# Altium footprint library HARTING Footprints.PcbLib: 317 footprints (part 9 of 20)
Each footprint in its own frame and in the unit in brackets; x right, y up, seen from the top. Pads: shape width x height; smd on the part's side, far side on the other; paste and mask are expansions set on the pad; w line width, h text height; cw(c..) or ccw(c..) is an arc to the next point about the centre after c.
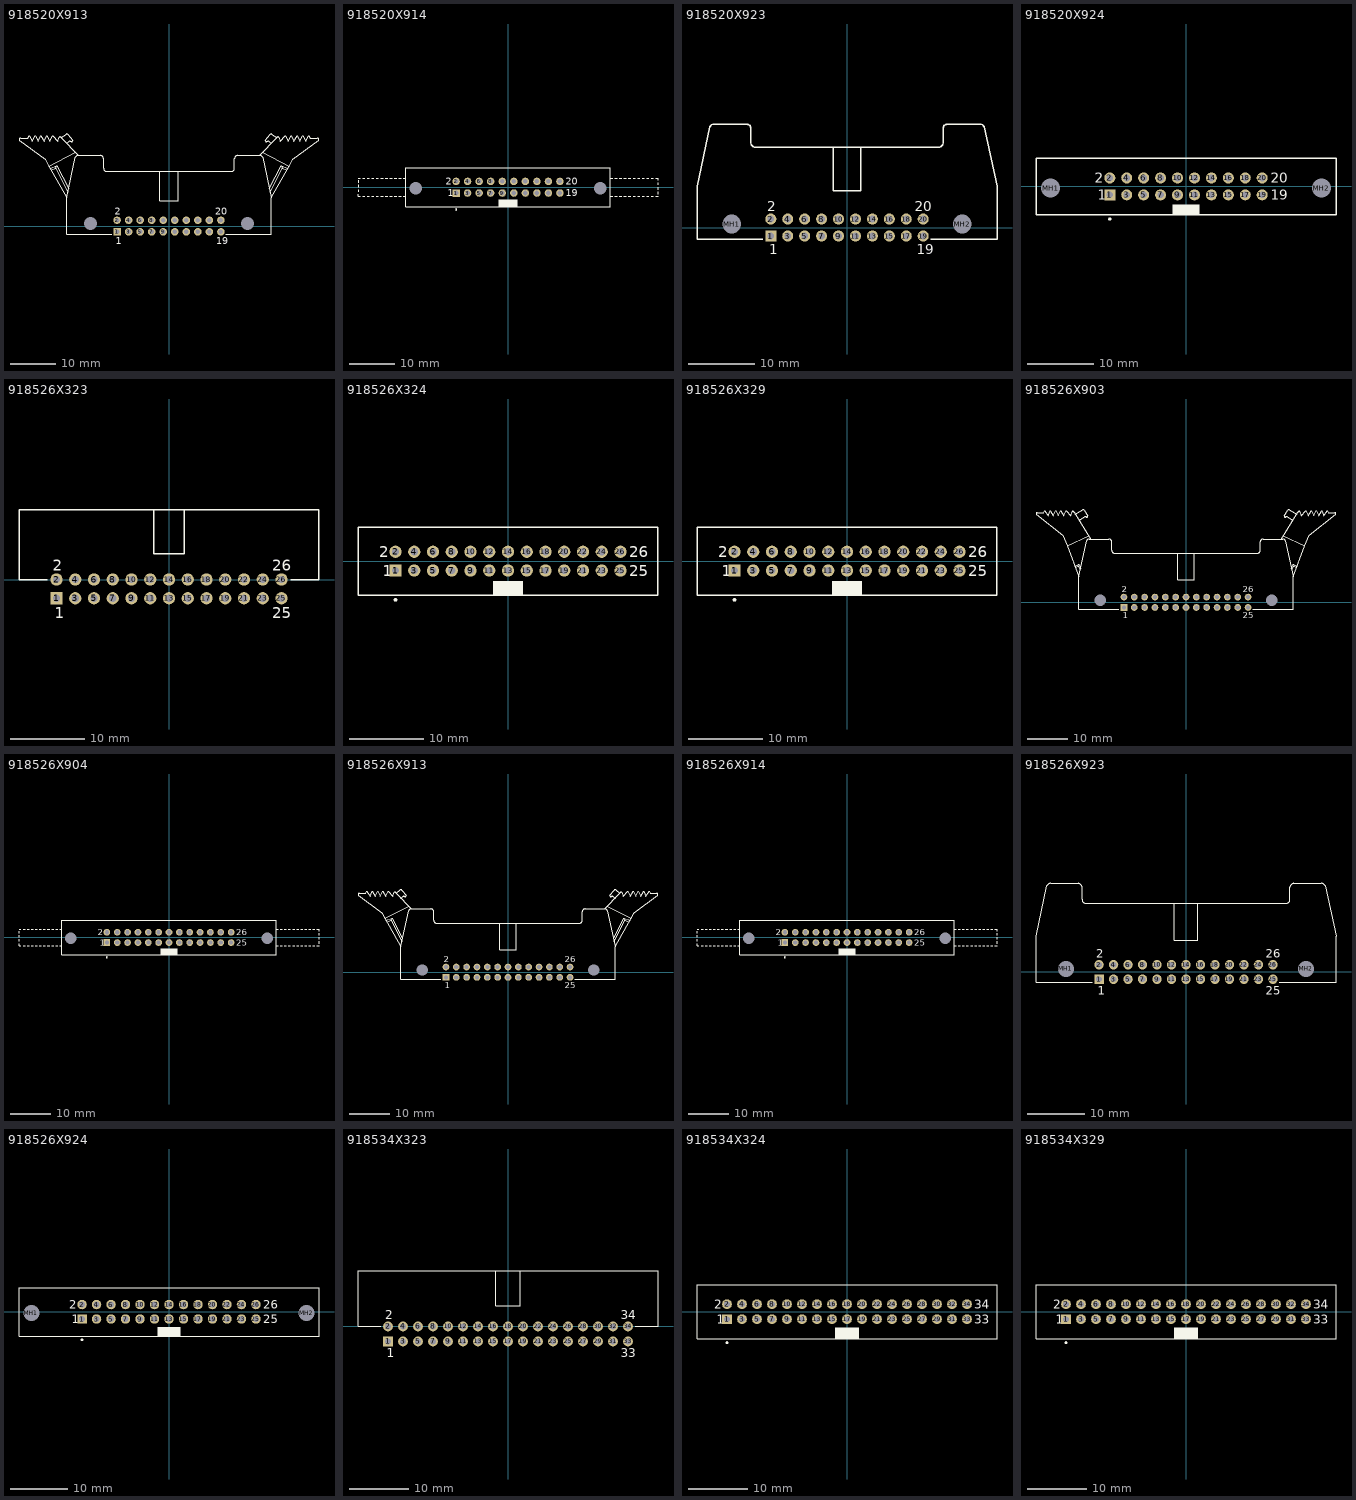
[diagram p8: the footprints below, top view; thin cyan lines are the x and y axes]

## 918520X913 [mm] "Connector; IDC, Thru-Hole; 20 Position; Right Angle; Pitch 2.54 mm; Body 45.00 x 8.5 x 23.30 mm (LxHxW), Locking levers"
height 23.3
pads (22):
  rect 1.65x1.65 hole 1: 1(-11.43,-1.27)
  round 1.65 hole 1: 2(-11.43,1.27) 3(-8.89,-1.27) 4(-8.89,1.27) 5(-6.35,-1.27) 6(-6.35,1.27) 7(-3.81,-1.27) 8(-3.81,1.27) 9(-1.27,-1.27) 10(-1.27,1.27) 11(1.27,-1.27) 12(1.27,1.27) 13(3.81,-1.27) 14(3.81,1.27) 15(6.35,-1.27) 16(6.35,1.27) 17(8.89,-1.27) 18(8.89,1.27) 19(11.43,-1.27) 20(11.43,1.27)
  round 2.5 hole 2.8 unplated: MH1(-17.27,0.53) MH2(17.27,0.53)
Top Overlay:
  lines w0.2: -26.169,12.722 -24.681,13.218 ; -25.941,12.377 -24.923,12.716 ; -22.538,18.198 -21.973,18.617 cw(c-21.837,18.227) -21.57,18.542 ccw(c-21.517,18.857) -21.198,18.877 -22.257,20.156 ccw(c-22.523,19.899) -22.672,20.238 -23.678,19.388 ; -22.253,7.442 -24.923,12.716 ; -22.106,8.195 -24.681,13.218 ; -20.62,16.204 -26.439,13.199 ; -20.007,15.533 -23.678,19.388 ; -20,15.53 -15.115,15.53 cw(c-15.115,14.83) -14.415,14.83 -14.415,12.73 ccw(c-13.715,12.73) -13.715,12.03 13.715,12.03 ccw(c13.715,12.73) 14.415,12.73 14.415,14.83 cw(c15.115,14.83) 15.115,15.53 20,15.53 ; -19.95,15.53 ccw(c-19.965,14.83) -20.61,15.102 -22.5,6.23 ; -12.655,-1.77 -22.5,-1.77 -22.5,6.23 ; -2.05,5.53 -2.05,12.03 ; -2.04,5.53 2.06,5.53 ; 2.05,5.534 2.05,12.03 ; 12.54,-1.77 22.5,-1.77 22.5,6.23 ; 19.95,15.53 cw(c19.965,14.83) 20.61,15.102 22.5,6.23 ; 20.007,15.533 23.678,19.388 ; 20.62,16.204 26.439,13.199 ; 22.106,8.195 24.681,13.218 ; 22.253,7.442 24.923,12.716 ; 22.538,18.198 21.973,18.617 ccw(c21.837,18.227) 21.57,18.542 cw(c21.517,18.857) 21.198,18.877 22.257,20.156 cw(c22.523,19.899) 22.672,20.238 23.678,19.388 ; 25.941,12.377 24.923,12.716 ; 26.169,12.722 24.681,13.218 ; -31.08,19.359 -32.691,19.359 ccw(c-32.691,19.02) -33,18.879 -27.245,14.654 -26.439,13.199 ; -31.08,19.359 -30.824,19.83 ; -31.08,19.359 -30.824,19.83 ; -30.824,19.83 -30.08,18.63 -29.48,19.83 -28.83,18.63 -28.21,19.83 -27.51,18.63 -26.96,19.83 -26.21,18.63 -25.58,19.83 -24.55,18.63 -24.143,19.594 cw(c-24.001,19.285) -23.678,19.388 ; -26.439,13.199 -22.5,6.23 ; -24.923,12.716 -24.681,13.218 ; 22.5,6.23 26.439,13.199 ; 23.678,19.388 cw(c24.001,19.285) 24.143,19.594 24.55,18.63 25.58,19.83 26.21,18.63 26.96,19.83 27.51,18.63 28.21,19.83 28.83,18.63 29.48,19.83 30.08,18.63 30.824,19.83 ; 24.681,13.218 24.923,12.716 ; 26.439,13.199 27.245,14.654 33,18.879 ccw(c32.691,19.02) 32.691,19.359 31.08,19.359 ; 30.824,19.83 31.08,19.359 ; 30.824,19.83 31.08,19.359
  text "19" at 10.43,-3.97 h1.5
  text "20" at 10.18,2.47 h1.5
  text "1" at -11.68,-3.97 h1.5
  text "2" at -11.93,2.47 h1.5

## 918520X914 [mm] "Connector; IDC, Thru-Hole; 20 Position; Vertical; Pitch 2.54 mm; Body 45.00 x 8.5 x 23.30 mm (LxWxH), Locking levers"
height 23.3
pads (22):
  rect 1.65x1.65 hole 1: 1(-11.43,-1.27)
  round 1.65 hole 1: 2(-11.43,1.27) 3(-8.89,-1.27) 4(-8.89,1.27) 5(-6.35,-1.27) 6(-6.35,1.27) 7(-3.81,-1.27) 8(-3.81,1.27) 9(-1.27,-1.27) 10(-1.27,1.27) 11(1.27,-1.27) 12(1.27,1.27) 13(3.81,-1.27) 14(3.81,1.27) 15(6.35,-1.27) 16(6.35,1.27) 17(8.89,-1.27) 18(8.89,1.27) 19(11.43,-1.27) 20(11.43,1.27)
  round 2.5 hole 2.8 unplated: MH1(-20.32,-0.25) MH2(20.32,-0.25)
Top Overlay:
  circle w0.25: c-11.43,-4.9 r0.125
  rectangle: -2.05,-4.25 2.05,-2.7
  lines w0.2: -33.01,-0.5 -33,-1 ; -33.01,0.5 -33,0 ; -33.01,1.5 -33,1 ; -33,-1.5 -33,-2 -32.5,-2 ; -33,2 -32.5,2 ; -32,-2 -31.5,-2 ; -32,2 -31.5,2 ; -31,-2 -30.5,-2 ; -31,2 -30.5,2 ; -30,-2 -29.5,-2 ; -30,2 -29.5,2 ; -29,-2 -28.5,-2 ; -29,2 -28.5,2 ; -28,-2 -27.5,-2 ; -28,2 -27.5,2 ; -27,-2 -26.5,-2 ; -27,2 -26.5,2 ; -26,-2 -25.5,-2 ; -26,2 -25.5,2 ; -25,-2 -24.5,-2 ; -25,2 -24.5,2 ; -24,-2 -23.5,-2 ; -24,2 -23.5,2 ; -23,-2 -22.5,-2 ; -23,2 -22.5,2 ; 22.5,-2 23,-2 ; 22.5,2 23,2 ; 23.5,-2 24,-2 ; 23.5,2 24,2 ; 24.5,-2 25,-2 ; 24.5,2 25,2 ; 25.5,-2 26,-2 ; 25.5,2 26,2 ; 26.5,-2 27,-2 ; 26.5,2 27,2 ; 27.5,-2 28,-2 ; 27.5,2 28,2 ; 28.5,-2 29,-2 ; 28.5,2 29,2 ; 29.5,-2 30,-2 ; 29.5,2 30,2 ; 30.5,-2 31,-2 ; 30.5,2 31,2 ; 31.5,-2 32,-2 ; 31.5,2 32,2 ; 32.5,-2 33,-2 ; 32.5,2 33,2 33,1.5 ; 33,-1.5 33,-1 ; 33,-0.5 33,0 ; 33,0.5 33,1 ; -22.5,-4.25 -22.5,4.25 22.5,4.25 22.5,-4.25 -22.5,-4.25
  text "2" at -13.71,0.52 h1.5
  text "1" at -13.21,-2.02 h1.5
  text "20" at 12.71,0.52 h1.5
  text "19" at 12.71,-2.02 h1.5

## 918520X923 [mm] "Connector; IDC, Thru-Hole; 20 Position; Right Angle; Pitch 2.54 mm; Body 45.00 x 8.5 x 17.30 mm (LxHxW), Without locking levers"
height 17.3
pads (22):
  rect 1.65x1.65 hole 1: 1(-11.43,-1.27)
  round 1.65 hole 1: 2(-11.43,1.27) 3(-8.89,-1.27) 4(-8.89,1.27) 5(-6.35,-1.27) 6(-6.35,1.27) 7(-3.81,-1.27) 8(-3.81,1.27) 9(-1.27,-1.27) 10(-1.27,1.27) 11(1.27,-1.27) 12(1.27,1.27) 13(3.81,-1.27) 14(3.81,1.27) 15(6.35,-1.27) 16(6.35,1.27) 17(8.89,-1.27) 18(8.89,1.27) 19(11.43,-1.27) 20(11.43,1.27)
  round 2.5 hole 2.8 unplated: MH1(-17.27,0.53) MH2(17.27,0.53)
Top Overlay:
  lines w0.2: -12.655,-1.77 -22.5,-1.77 -22.5,6.23 -20.6,15.102 cw(c-19.955,14.83) -19.94,15.53 -15.115,15.53 cw(c-15.115,14.83) -14.415,14.83 -14.415,12.73 ccw(c-13.715,12.73) -13.715,12.03 13.715,12.03 ccw(c13.715,12.73) 14.415,12.73 14.415,14.83 cw(c15.115,14.83) 15.115,15.53 19.94,15.53 cw(c19.955,14.83) 20.6,15.102 22.5,6.23 22.5,-1.77 12.54,-1.77 ; -2.05,5.53 -2.05,12.03 ; -2.04,5.53 2.06,5.53 ; 2.05,5.534 2.05,12.03
  text "2" at -11.93,2.47 h1.5
  text "1" at -11.68,-3.97 h1.5
  text "20" at 10.18,2.47 h1.5
  text "19" at 10.43,-3.97 h1.5

## 918520X924 [mm] "Connector; IDC, Thru-Hole; 20 Position; Vertical; Pitch 2.54 mm; Body 45.00 x 8.5 x 17.30 mm (LxWxH), Without locking levers"
height 17.3
pads (22):
  rect 1.65x1.65 hole 1: 1(-11.43,-1.27)
  round 1.65 hole 1: 2(-11.43,1.27) 3(-8.89,-1.27) 4(-8.89,1.27) 5(-6.35,-1.27) 6(-6.35,1.27) 7(-3.81,-1.27) 8(-3.81,1.27) 9(-1.27,-1.27) 10(-1.27,1.27) 11(1.27,-1.27) 12(1.27,1.27) 13(3.81,-1.27) 14(3.81,1.27) 15(6.35,-1.27) 16(6.35,1.27) 17(8.89,-1.27) 18(8.89,1.27) 19(11.43,-1.27) 20(11.43,1.27)
  round 2.5 hole 2.8 unplated: MH1(-20.32,-0.25) MH2(20.32,-0.25)
Top Overlay:
  circle w0.25: c-11.43,-4.9 r0.125
  rectangle: -2.05,-4.25 2.05,-2.7
  lines w0.2: -22.5,-4.25 -22.5,4.25 22.5,4.25 22.5,-4.25 -22.5,-4.25
  text "2" at -13.71,0.52 h1.5
  text "1" at -13.21,-2.02 h1.5
  text "20" at 12.71,0.52 h1.5
  text "19" at 12.71,-2.02 h1.5

## 918526X323 [mm] "Connector; IDC, Low Profile Male Header, Thru-Hole; 26 Position; Right Angle; Pitch 2.54 mm; Body 40.64 x 8.9 x 9.2 mm (LxWxH)"
height 9.2
pads (26):
  rect 1.65x1.65 hole 1: 1(-15.24,-2.54)
  round 1.65 hole 1: 2(-15.24,0) 3(-12.7,-2.54) 4(-12.7,0) 5(-10.16,-2.54) 6(-10.16,0) 7(-7.62,-2.54) 8(-7.62,0) 9(-5.08,-2.54) 10(-5.08,0) 11(-2.54,-2.54) 12(-2.54,0) 13(0,-2.54) 14(0,0) 15(2.54,-2.54) 16(2.54,0) 17(5.08,-2.54) 18(5.08,0) 19(7.62,-2.54) 20(7.62,0) 21(10.16,-2.54) 22(10.16,0) 23(12.7,-2.54) 24(12.7,0) 25(15.24,-2.54) 26(15.24,0)
Top Overlay:
  lines w0.2: -16.465,0 -20.32,0 -20.32,9.45 20.32,9.45 20.32,0 16.465,0 ; -2.05,9.45 -2.05,3.48 2.05,3.48 2.05,9.45
  text "2" at -15.74,1.2 h1.5
  text "1" at -15.49,-5.24 h1.5
  text "26" at 13.99,1.2 h1.5
  text "25" at 13.99,-5.24 h1.5

## 918526X324 [mm] "Connector; IDC, Low Profile Male Header, Thru-Hole; 26 Position; Vertical; Pitch 2.54 mm; Body 40.64 x 9.2 x 9.45 mm (LxWxH)"
height 9.45
pads (26):
  rect 1.65x1.65 hole 1: 1(-15.24,-1.27)
  round 1.65 hole 1: 2(-15.24,1.27) 3(-12.7,-1.27) 4(-12.7,1.27) 5(-10.16,-1.27) 6(-10.16,1.27) 7(-7.62,-1.27) 8(-7.62,1.27) 9(-5.08,-1.27) 10(-5.08,1.27) 11(-2.54,-1.27) 12(-2.54,1.27) 13(0,-1.27) 14(0,1.27) 15(2.54,-1.27) 16(2.54,1.27) 17(5.08,-1.27) 18(5.08,1.27) 19(7.62,-1.27) 20(7.62,1.27) 21(10.16,-1.27) 22(10.16,1.27) 23(12.7,-1.27) 24(12.7,1.27) 25(15.24,-1.27) 26(15.24,1.27)
Top Overlay:
  circle w0.25: c-15.24,-5.25 r0.125
  rectangle: -2.05,-4.6 2.05,-2.7
  lines w0.2: -20.32,-4.6 20.32,-4.6 20.32,4.6 -20.32,4.6 -20.32,-4.6
  text "25" at 16.44,-2.02 h1.5
  text "26" at 16.44,0.52 h1.5
  text "1" at -16.94,-2.02 h1.5
  text "2" at -17.44,0.52 h1.5

## 918526X329 [mm] "Connector; IDC, Straight Press-in Pin, Thru-Hole; 26 Position; Vertical; Pitch 2.54 mm; Body 40.64 x 9.2 x 9.45 mm (LxWxH)"
height 9.45
pads (26):
  rect 1.65x1.65 hole 1: 1(-15.24,-1.27)
  round 1.65 hole 1: 2(-15.24,1.27) 3(-12.7,-1.27) 4(-12.7,1.27) 5(-10.16,-1.27) 6(-10.16,1.27) 7(-7.62,-1.27) 8(-7.62,1.27) 9(-5.08,-1.27) 10(-5.08,1.27) 11(-2.54,-1.27) 12(-2.54,1.27) 13(0,-1.27) 14(0,1.27) 15(2.54,-1.27) 16(2.54,1.27) 17(5.08,-1.27) 18(5.08,1.27) 19(7.62,-1.27) 20(7.62,1.27) 21(10.16,-1.27) 22(10.16,1.27) 23(12.7,-1.27) 24(12.7,1.27) 25(15.24,-1.27) 26(15.24,1.27)
Top Overlay:
  circle w0.25: c-15.24,-5.25 r0.125
  rectangle: -2.05,-4.6 2.05,-2.7
  lines w0.2: -20.32,-4.6 20.32,-4.6 20.32,4.6 -20.32,4.6 -20.32,-4.6
  text "25" at 16.44,-2.02 h1.5
  text "26" at 16.44,0.52 h1.5
  text "1" at -16.94,-2.02 h1.5
  text "2" at -17.44,0.52 h1.5

## 918526X903 [mm] "Connector; IDC, Thru-Hole; 26 Position; Right Angle; Pitch 2.54 mm; Body 52.60 x 8.5 x 25.75 mm (LxHxW), Locking levers"
height 25.75
pads (28):
  rect 1.65x1.65 hole 1: 1(-15.24,-1.27)
  round 1.65 hole 1: 2(-15.24,1.27) 3(-12.7,-1.27) 4(-12.7,1.27) 5(-10.16,-1.27) 6(-10.16,1.27) 7(-7.62,-1.27) 8(-7.62,1.27) 9(-5.08,-1.27) 10(-5.08,1.27) 11(-2.54,-1.27) 12(-2.54,1.27) 13(0,-1.27) 14(0,1.27) 15(2.54,-1.27) 16(2.54,1.27) 17(5.08,-1.27) 18(5.08,1.27) 19(7.62,-1.27) 20(7.62,1.27) 21(10.16,-1.27) 22(10.16,1.27) 23(12.7,-1.27) 24(12.7,1.27) 25(15.24,-1.27) 26(15.24,1.27)
  round 2.5 hole 2.8 unplated: MH1(-21.08,0.53) MH2(21.08,0.53)
Top Overlay:
  lines w0.2: -27.27,8.851 -26.305,9.3 ; -27.141,8.563 -26.47,8.877 ; -27.135,21.6 -25.412,22.725 cw(c-25.263,22.387) -24.997,22.644 -24.072,21.245 cw(c-24.392,21.225) -24.444,20.91 ccw(c-24.712,20.595) -24.847,20.985 ; -26.213,20.103 -24.85,20.991 ; -25.943,7.925 -26.47,8.877 ; -25.843,8.378 -26.305,9.3 ; -23.915,16.383 -29.139,13.84 ; -23.344,15.53 -27.478,22.058 ccw(c-27.801,21.956) -27.943,22.265 -28.35,21.301 -29.38,22.501 -30.01,21.301 -30.76,22.501 -31.31,21.301 -32.01,22.501 -32.63,21.301 -33.28,22.501 -33.88,21.301 -34.625,22.501 ; -18.925,15.53 cw(c-18.925,14.83) -18.225,14.83 -18.225,12.73 ccw(c-17.525,12.73) -17.525,12.03 17.525,12.03 ccw(c17.525,12.73) 18.225,12.73 18.225,14.83 cw(c18.925,14.83) 18.925,15.53 23.75,15.53 cw(c23.765,14.83) 24.41,15.102 26.3,6.23 ; -18.925,15.53 -23.75,15.53 ccw(c-23.765,14.83) -24.41,15.102 -26.3,6.23 ; -16.465,-1.77 -26.3,-1.77 -26.3,6.23 ; -2.05,5.53 -2.05,12.03 ; -2.04,5.53 2.06,5.53 ; 2.05,5.534 2.05,12.03 ; 16.35,-1.77 26.3,-1.77 26.3,6.23 ; 23.344,15.53 27.478,22.058 cw(c27.801,21.956) 27.943,22.265 28.35,21.301 29.38,22.501 30.01,21.301 30.76,22.501 31.31,21.301 32.01,22.501 32.63,21.301 33.28,22.501 33.88,21.301 34.624,22.501 ; 23.915,16.383 29.139,13.84 ; 24.847,20.985 ccw(c24.712,20.595) 24.444,20.91 cw(c24.392,21.225) 24.072,21.245 24.997,22.644 cw(c25.263,22.387) 25.412,22.725 27.135,21.6 ; 24.85,20.991 26.213,20.103 ; 25.843,8.378 26.305,9.3 ; 25.943,7.925 26.47,8.877 ; 27.141,8.563 26.47,8.877 ; 27.27,8.851 26.305,9.3 ; -34.88,22.03 -36.491,22.03 ccw(c-36.491,21.69) -36.8,21.549 -30.265,16.455 -29.139,13.84 ; -34.88,22.03 -34.625,22.501 ; -34.88,22.03 -34.625,22.501 ; -29.139,13.84 -26.3,6.23 ; -26.47,8.877 -26.305,9.3 ; 26.3,6.23 29.139,13.84 ; 26.305,9.3 26.47,8.877 ; 29.139,13.84 30.265,16.455 36.8,21.549 ccw(c36.491,21.69) 36.491,22.03 34.88,22.03 ; 34.624,22.501 34.88,22.03 ; 34.624,22.501 34.88,22.03
  text "2" at -15.74,2.47 h1.5
  text "1" at -15.49,-3.97 h1.5
  text "26" at 13.99,2.47 h1.5
  text "25" at 13.99,-3.97 h1.5

## 918526X904 [mm] "Connector; IDC, Thru-Hole; 26 Position; Vertical; Pitch 2.54 mm; Body 52.60 x 8.5 x 25.75 mm (LxWxH), Locking levers"
height 25.75
pads (28):
  rect 1.65x1.65 hole 1: 1(-15.24,-1.27)
  round 1.65 hole 1: 2(-15.24,1.27) 3(-12.7,-1.27) 4(-12.7,1.27) 5(-10.16,-1.27) 6(-10.16,1.27) 7(-7.62,-1.27) 8(-7.62,1.27) 9(-5.08,-1.27) 10(-5.08,1.27) 11(-2.54,-1.27) 12(-2.54,1.27) 13(0,-1.27) 14(0,1.27) 15(2.54,-1.27) 16(2.54,1.27) 17(5.08,-1.27) 18(5.08,1.27) 19(7.62,-1.27) 20(7.62,1.27) 21(10.16,-1.27) 22(10.16,1.27) 23(12.7,-1.27) 24(12.7,1.27) 25(15.24,-1.27) 26(15.24,1.27)
  round 2.5 hole 2.8 unplated: MH1(-24.13,-0.25) MH2(24.13,-0.25)
Top Overlay:
  circle w0.25: c-15.24,-4.9 r0.125
  rectangle: -2.05,-4.25 2.05,-2.7
  lines w0.2: -36.8,-1.5 -36.8,-2 -36.31,-2 ; -36.8,-1 -36.8,-0.5 ; -36.8,0 -36.8,0.5 ; -36.8,1 -36.8,1.5 ; -36.8,2 -36.31,2 ; -35.81,-2 -35.31,-2 ; -35.81,2 -35.31,2 ; -34.81,-2 -34.31,-2 ; -34.81,2 -34.31,2 ; -33.81,-2 -33.31,-2 ; -33.81,2 -33.31,2 ; -32.81,-2 -32.31,-2 ; -32.81,2 -32.31,2 ; -31.81,-2 -31.31,-2 ; -31.81,2 -31.31,2 ; -30.81,-2 -30.31,-2 ; -30.81,2 -30.31,2 ; -29.81,-2 -29.31,-2 ; -29.81,2 -29.31,2 ; -28.81,-2 -28.31,-2 ; -28.81,2 -28.31,2 ; -27.81,-2 -27.31,-2 ; -27.81,2 -27.31,2 ; -26.81,-2 -26.3,-2 ; -26.81,2 -26.3,2 ; 26.3,-2 26.8,-2 ; 26.3,2 26.8,2 ; 27.3,-2 27.8,-2 ; 27.3,2 27.8,2 ; 28.3,-2 28.8,-2 ; 28.3,2 28.8,2 ; 29.3,-2 29.8,-2 ; 29.3,2 29.8,2 ; 30.3,-2 30.8,-2 ; 30.3,2 30.8,2 ; 31.3,-2 31.8,-2 ; 31.3,2 31.8,2 ; 32.3,-2 32.8,-2 ; 32.3,2 32.8,2 ; 33.3,-2 33.8,-2 ; 33.3,2 33.8,2 ; 34.3,-2 34.8,-2 ; 34.3,2 34.8,2 ; 35.3,-2 35.8,-2 ; 35.3,2 35.8,2 ; 36.3,-2 36.8,-2 ; 36.3,2 36.8,2 36.8,1.5 ; 36.8,-1.5 36.8,-1 ; 36.8,-0.5 36.8,0 ; 36.8,0.5 36.8,1 ; -26.3,-4.25 26.3,-4.25 26.3,4.25 -26.3,4.25 -26.3,-4.25
  text "25" at 16.52,-2.02 h1.5
  text "26" at 16.52,0.52 h1.5
  text "1" at -17.02,-2.02 h1.5
  text "2" at -17.52,0.52 h1.5

## 918526X913 [mm] "Connector; IDC, Thru-Hole; 26 Position; Right Angle; Pitch 2.54 mm; Body 52.60 x 8.5 x 23.30 mm (LxHxW), Locking levers"
height 23.3
pads (28):
  rect 1.65x1.65 hole 1: 1(-15.24,-1.27)
  round 1.65 hole 1: 2(-15.24,1.27) 3(-12.7,-1.27) 4(-12.7,1.27) 5(-10.16,-1.27) 6(-10.16,1.27) 7(-7.62,-1.27) 8(-7.62,1.27) 9(-5.08,-1.27) 10(-5.08,1.27) 11(-2.54,-1.27) 12(-2.54,1.27) 13(0,-1.27) 14(0,1.27) 15(2.54,-1.27) 16(2.54,1.27) 17(5.08,-1.27) 18(5.08,1.27) 19(7.62,-1.27) 20(7.62,1.27) 21(10.16,-1.27) 22(10.16,1.27) 23(12.7,-1.27) 24(12.7,1.27) 25(15.24,-1.27) 26(15.24,1.27)
  round 2.5 hole 2.8 unplated: MH1(-21.08,0.53) MH2(21.08,0.53)
Top Overlay:
  lines w0.2: -29.969,12.722 -28.481,13.218 ; -29.741,12.377 -28.723,12.716 ; -26.338,18.198 -25.773,18.617 cw(c-25.637,18.227) -25.37,18.542 ccw(c-25.317,18.857) -24.998,18.877 -26.057,20.156 ccw(c-26.323,19.899) -26.472,20.238 -27.478,19.388 ; -26.053,7.442 -28.723,12.716 ; -25.906,8.195 -28.481,13.218 ; -24.42,16.204 -30.239,13.199 ; -23.807,15.533 -27.478,19.388 ; -18.925,15.53 cw(c-18.925,14.83) -18.225,14.83 -18.225,12.73 ccw(c-17.525,12.73) -17.525,12.03 17.525,12.03 ccw(c17.525,12.73) 18.225,12.73 18.225,14.83 cw(c18.925,14.83) 18.925,15.53 23.75,15.53 cw(c23.765,14.83) 24.41,15.102 26.3,6.23 ; -18.925,15.53 -23.75,15.53 ccw(c-23.765,14.83) -24.41,15.102 -26.3,6.23 ; -16.465,-1.77 -26.3,-1.77 -26.3,6.23 ; -2.05,5.53 -2.05,12.03 ; -2.04,5.53 2.06,5.53 ; 2.05,5.534 2.05,12.03 ; 16.35,-1.77 26.3,-1.77 26.3,6.23 ; 23.807,15.533 27.478,19.388 ; 24.42,16.204 30.239,13.199 ; 25.906,8.195 28.481,13.218 ; 26.053,7.442 28.723,12.716 ; 26.338,18.198 25.773,18.617 ccw(c25.637,18.227) 25.37,18.542 cw(c25.317,18.857) 24.998,18.877 26.057,20.156 cw(c26.323,19.899) 26.472,20.238 27.478,19.388 ; 29.741,12.377 28.723,12.716 ; 29.969,12.722 28.481,13.218 ; -34.88,19.359 -36.491,19.359 ccw(c-36.491,19.02) -36.8,18.879 -31.045,14.654 -30.239,13.199 ; -34.88,19.359 -34.624,19.83 ; -34.88,19.359 -34.624,19.83 ; -34.624,19.83 -33.88,18.63 -33.28,19.83 -32.63,18.63 -32.01,19.83 -31.31,18.63 -30.76,19.83 -30.01,18.63 -29.38,19.83 -28.35,18.63 -27.943,19.594 cw(c-27.801,19.285) -27.478,19.388 ; -30.239,13.199 -26.3,6.23 ; -28.723,12.716 -28.481,13.218 ; 26.3,6.23 30.239,13.199 ; 27.478,19.388 cw(c27.801,19.285) 27.943,19.594 28.35,18.63 29.38,19.83 30.01,18.63 30.76,19.83 31.31,18.63 32.01,19.83 32.63,18.63 33.28,19.83 33.88,18.63 34.624,19.83 ; 28.481,13.218 28.723,12.716 ; 30.239,13.199 31.045,14.654 36.8,18.879 ccw(c36.491,19.02) 36.491,19.359 34.88,19.359 ; 34.624,19.83 34.88,19.359 ; 34.624,19.83 34.88,19.359
  text "25" at 13.99,-3.97 h1.5
  text "26" at 13.99,2.47 h1.5
  text "1" at -15.49,-3.97 h1.5
  text "2" at -15.74,2.47 h1.5

## 918526X914 [mm] "Connector; IDC, Thru-Hole; 26 Position; Vertical; Pitch 2.54 mm; Body 52.60 x 8.5 x 23.30 mm (LxWxH), Locking levers"
height 23.3
pads (28):
  rect 1.65x1.65 hole 1: 1(-15.24,-1.27)
  round 1.65 hole 1: 2(-15.24,1.27) 3(-12.7,-1.27) 4(-12.7,1.27) 5(-10.16,-1.27) 6(-10.16,1.27) 7(-7.62,-1.27) 8(-7.62,1.27) 9(-5.08,-1.27) 10(-5.08,1.27) 11(-2.54,-1.27) 12(-2.54,1.27) 13(0,-1.27) 14(0,1.27) 15(2.54,-1.27) 16(2.54,1.27) 17(5.08,-1.27) 18(5.08,1.27) 19(7.62,-1.27) 20(7.62,1.27) 21(10.16,-1.27) 22(10.16,1.27) 23(12.7,-1.27) 24(12.7,1.27) 25(15.24,-1.27) 26(15.24,1.27)
  round 2.5 hole 2.8 unplated: MH1(-24.13,-0.25) MH2(24.13,-0.25)
Top Overlay:
  circle w0.25: c-15.24,-4.9 r0.125
  rectangle: -2.05,-4.25 2.05,-2.7
  lines w0.2: -36.8,-1.5 -36.8,-2 -36.31,-2 ; -36.8,-1 -36.8,-0.5 ; -36.8,0 -36.8,0.5 ; -36.8,1 -36.8,1.5 ; -36.8,2 -36.31,2 ; -35.81,-2 -35.31,-2 ; -35.81,2 -35.31,2 ; -34.81,-2 -34.31,-2 ; -34.81,2 -34.31,2 ; -33.81,-2 -33.31,-2 ; -33.81,2 -33.31,2 ; -32.81,-2 -32.31,-2 ; -32.81,2 -32.31,2 ; -31.81,-2 -31.31,-2 ; -31.81,2 -31.31,2 ; -30.81,-2 -30.31,-2 ; -30.81,2 -30.31,2 ; -29.81,-2 -29.31,-2 ; -29.81,2 -29.31,2 ; -28.81,-2 -28.31,-2 ; -28.81,2 -28.31,2 ; -27.81,-2 -27.31,-2 ; -27.81,2 -27.31,2 ; -26.81,-2 -26.3,-2 ; -26.81,2 -26.3,2 ; 26.3,-2 26.8,-2 ; 26.3,2 26.8,2 ; 27.3,-2 27.8,-2 ; 27.3,2 27.8,2 ; 28.3,-2 28.8,-2 ; 28.3,2 28.8,2 ; 29.3,-2 29.8,-2 ; 29.3,2 29.8,2 ; 30.3,-2 30.8,-2 ; 30.3,2 30.8,2 ; 31.3,-2 31.8,-2 ; 31.3,2 31.8,2 ; 32.3,-2 32.8,-2 ; 32.3,2 32.8,2 ; 33.3,-2 33.8,-2 ; 33.3,2 33.8,2 ; 34.3,-2 34.8,-2 ; 34.3,2 34.8,2 ; 35.3,-2 35.8,-2 ; 35.3,2 35.8,2 ; 36.3,-2 36.8,-2 ; 36.3,2 36.8,2 36.8,1.5 ; 36.8,-1.5 36.8,-1 ; 36.8,-0.5 36.8,0 ; 36.8,0.5 36.8,1 ; -26.3,-4.25 26.3,-4.25 26.3,4.25 -26.3,4.25 -26.3,-4.25
  text "25" at 16.52,-2.02 h1.5
  text "26" at 16.52,0.52 h1.5
  text "1" at -17.02,-2.02 h1.5
  text "2" at -17.52,0.52 h1.5

## 918526X923 [mm] "Connector; IDC, Thru-Hole; 26 Position; Right Angle; Pitch 2.54 mm; Body 52.60 x 8.5 x 17.30 mm (LxHxW), Without locking levers"
height 17.3
pads (28):
  rect 1.65x1.65 hole 1: 1(-15.24,-1.27)
  round 1.65 hole 1: 2(-15.24,1.27) 3(-12.7,-1.27) 4(-12.7,1.27) 5(-10.16,-1.27) 6(-10.16,1.27) 7(-7.62,-1.27) 8(-7.62,1.27) 9(-5.08,-1.27) 10(-5.08,1.27) 11(-2.54,-1.27) 12(-2.54,1.27) 13(0,-1.27) 14(0,1.27) 15(2.54,-1.27) 16(2.54,1.27) 17(5.08,-1.27) 18(5.08,1.27) 19(7.62,-1.27) 20(7.62,1.27) 21(10.16,-1.27) 22(10.16,1.27) 23(12.7,-1.27) 24(12.7,1.27) 25(15.24,-1.27) 26(15.24,1.27)
  round 2.5 hole 2.8 unplated: MH1(-21.08,0.53) MH2(21.08,0.53)
Top Overlay:
  lines w0.2: -18.925,15.53 cw(c-18.925,14.83) -18.225,14.83 -18.225,12.73 ccw(c-17.525,12.73) -17.525,12.03 17.525,12.03 ccw(c17.525,12.73) 18.225,12.73 18.225,14.83 cw(c18.925,14.83) 18.925,15.53 23.75,15.53 cw(c23.765,14.83) 24.41,15.102 26.3,6.23 26.3,-1.77 16.35,-1.77 ; -18.925,15.53 -23.75,15.53 ccw(c-23.765,14.83) -24.41,15.102 -26.3,6.23 -26.3,-1.77 -16.465,-1.77 ; -2.05,5.53 -2.05,12.03 ; -2.04,5.53 2.06,5.53 ; 2.05,5.534 2.05,12.03
  text "25" at 13.99,-3.97 h1.5
  text "26" at 13.99,2.47 h1.5
  text "1" at -15.49,-3.97 h1.5
  text "2" at -15.74,2.47 h1.5

## 918526X924 [mm] "Connector; IDC, Thru-Hole; 26 Position; Vertical; Pitch 2.54 mm; Body 52.60 x 8.5 x 17.30 mm (LxWxH), Without locking levers"
height 17.3
pads (28):
  rect 1.65x1.65 hole 1: 1(-15.24,-1.27)
  round 1.65 hole 1: 2(-15.24,1.27) 3(-12.7,-1.27) 4(-12.7,1.27) 5(-10.16,-1.27) 6(-10.16,1.27) 7(-7.62,-1.27) 8(-7.62,1.27) 9(-5.08,-1.27) 10(-5.08,1.27) 11(-2.54,-1.27) 12(-2.54,1.27) 13(0,-1.27) 14(0,1.27) 15(2.54,-1.27) 16(2.54,1.27) 17(5.08,-1.27) 18(5.08,1.27) 19(7.62,-1.27) 20(7.62,1.27) 21(10.16,-1.27) 22(10.16,1.27) 23(12.7,-1.27) 24(12.7,1.27) 25(15.24,-1.27) 26(15.24,1.27)
  round 2.5 hole 2.8 unplated: MH1(-24.13,-0.25) MH2(24.13,-0.25)
Top Overlay:
  circle w0.25: c-15.24,-4.9 r0.125
  rectangle: -2.05,-4.25 2.05,-2.7
  lines w0.2: -26.3,-4.25 -26.3,4.25 26.3,4.25 26.3,-4.25 -26.3,-4.25
  text "2" at -17.52,0.52 h1.5
  text "1" at -17.02,-2.02 h1.5
  text "26" at 16.52,0.52 h1.5
  text "25" at 16.52,-2.02 h1.5

## 918534X323 [mm] "Connector; IDC, Low Profile Male Header, Thru-Hole; 34 Position; Right Angle; Pitch 2.54 mm; Body 50.80 x 8.9 x 9.2 mm (LxWxH)"
height 9.2
pads (34):
  rect 1.65x1.65 hole 1: 1(-20.32,-2.54)
  round 1.65 hole 1: 2(-20.32,0) 3(-17.78,-2.54) 4(-17.78,0) 5(-15.24,-2.54) 6(-15.24,0) 7(-12.7,-2.54) 8(-12.7,0) 9(-10.16,-2.54) 10(-10.16,0) 11(-7.62,-2.54) 12(-7.62,0) 13(-5.08,-2.54) 14(-5.08,0) 15(-2.54,-2.54) 16(-2.54,0) 17(0,-2.54) 18(0,0) 19(2.54,-2.54) 20(2.54,0) 21(5.08,-2.54) 22(5.08,0) 23(7.62,-2.54) 24(7.62,0) 25(10.16,-2.54) 26(10.16,0) 27(12.7,-2.54) 28(12.7,0) 29(15.24,-2.54) 30(15.24,0) 31(17.78,-2.54) 32(17.78,0) 33(20.32,-2.54) 34(20.32,0)
Top Overlay:
  lines w0.2: -21.545,0 -25.4,0 -25.4,9.45 25.4,9.45 25.4,0 21.545,0 ; -2.05,9.45 -2.05,3.48 2.05,3.48 2.05,9.45
  text "2" at -20.82,1.2 h1.5
  text "1" at -20.57,-5.24 h1.5
  text "34" at 19.07,1.2 h1.5
  text "33" at 19.07,-5.24 h1.5

## 918534X324 [mm] "Connector; IDC, Low Profile Male Header, Thru-Hole; 34 Position; Vertical; Pitch 2.54 mm; Body 50.80 x 9.2 x 9.45 mm (LxWxH)"
height 9.45
pads (34):
  rect 1.65x1.65 hole 1: 1(-20.32,-1.27)
  round 1.65 hole 1: 2(-20.32,1.27) 3(-17.78,-1.27) 4(-17.78,1.27) 5(-15.24,-1.27) 6(-15.24,1.27) 7(-12.7,-1.27) 8(-12.7,1.27) 9(-10.16,-1.27) 10(-10.16,1.27) 11(-7.62,-1.27) 12(-7.62,1.27) 13(-5.08,-1.27) 14(-5.08,1.27) 15(-2.54,-1.27) 16(-2.54,1.27) 17(0,-1.27) 18(0,1.27) 19(2.54,-1.27) 20(2.54,1.27) 21(5.08,-1.27) 22(5.08,1.27) 23(7.62,-1.27) 24(7.62,1.27) 25(10.16,-1.27) 26(10.16,1.27) 27(12.7,-1.27) 28(12.7,1.27) 29(15.24,-1.27) 30(15.24,1.27) 31(17.78,-1.27) 32(17.78,1.27) 33(20.32,-1.27) 34(20.32,1.27)
Top Overlay:
  circle w0.25: c-20.32,-5.25 r0.125
  rectangle: -2.05,-4.6 2.05,-2.7
  lines w0.2: -25.4,-4.6 -25.4,4.6 25.4,4.6 25.4,-4.6 -25.4,-4.6
  text "2" at -22.52,0.52 h1.5
  text "1" at -22.02,-2.02 h1.5
  text "34" at 21.52,0.52 h1.5
  text "33" at 21.52,-2.02 h1.5

## 918534X329 [mm] "Connector; IDC, Straight Press-in Pin, Thru-Hole; 34 Position; Vertical; Pitch 2.54 mm; Body 50.80 x 9.2 x 9.45 mm (LxWxH)"
height 9.45
pads (34):
  rect 1.65x1.65 hole 1: 1(-20.32,-1.27)
  round 1.65 hole 1: 2(-20.32,1.27) 3(-17.78,-1.27) 4(-17.78,1.27) 5(-15.24,-1.27) 6(-15.24,1.27) 7(-12.7,-1.27) 8(-12.7,1.27) 9(-10.16,-1.27) 10(-10.16,1.27) 11(-7.62,-1.27) 12(-7.62,1.27) 13(-5.08,-1.27) 14(-5.08,1.27) 15(-2.54,-1.27) 16(-2.54,1.27) 17(0,-1.27) 18(0,1.27) 19(2.54,-1.27) 20(2.54,1.27) 21(5.08,-1.27) 22(5.08,1.27) 23(7.62,-1.27) 24(7.62,1.27) 25(10.16,-1.27) 26(10.16,1.27) 27(12.7,-1.27) 28(12.7,1.27) 29(15.24,-1.27) 30(15.24,1.27) 31(17.78,-1.27) 32(17.78,1.27) 33(20.32,-1.27) 34(20.32,1.27)
Top Overlay:
  circle w0.25: c-20.32,-5.25 r0.125
  rectangle: -2.05,-4.6 2.05,-2.7
  lines w0.2: -25.4,-4.6 -25.4,4.6 25.4,4.6 25.4,-4.6 -25.4,-4.6
  text "2" at -22.52,0.52 h1.5
  text "1" at -22.02,-2.02 h1.5
  text "34" at 21.52,0.52 h1.5
  text "33" at 21.52,-2.02 h1.5